# Altium footprint library TRXSOFL6P50_160X160X55L20X20N.PcbLib: 1 footprints
Each footprint in its own frame and in the unit in brackets; x right, y up, seen from the top. Pads: shape width x height; smd on the part's side, far side on the other; paste and mask are expansions set on the pad; w line width, h text height; cw(c..) or ccw(c..) is an arc to the next point about the centre after c.
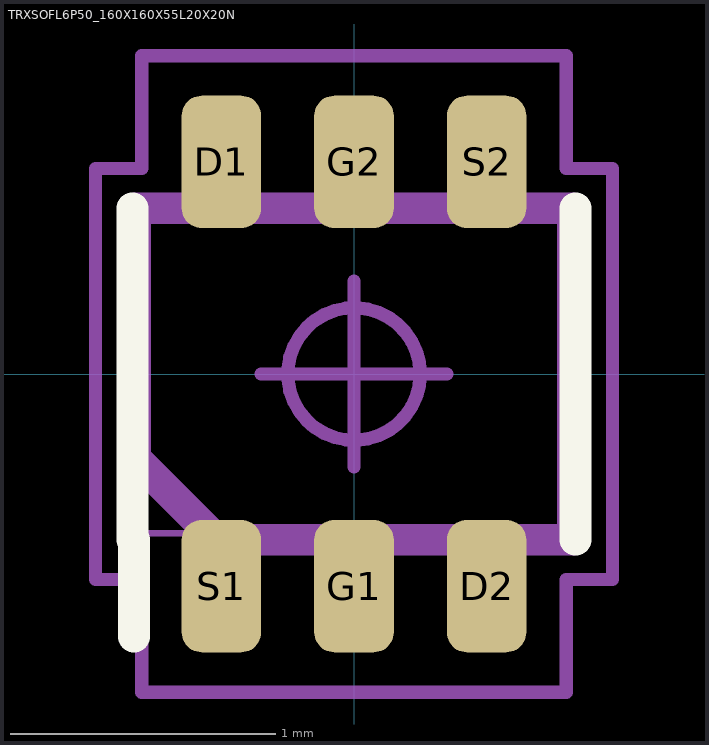
[diagram p0: the footprint, top view; thin cyan lines are the x and y axes]

## TRXSOFL6P50_160X160X55L20X20N [mm] "Small Outline Flat Lead (SOFL), 0.50 mm pitch; 6 pin, 1.60 mm L X 1.20 mm W X 0.60 mm H Body"
height 0.6
pads (6):
  rrect50% 0.3x0.5 smd: D1(-0.5,0.8) D2(0.5,-0.8) G1(0,-0.8) G2(0,0.8) S1(-0.5,-0.8) S2(0.5,0.8)
Top Overlay:
  lines w0.12: -0.835,-0.625 -0.835,0.625 ; -0.83,-0.99 -0.83,-0.625 ; 0.835,-0.625 0.835,0.625
Mechanical 3:
  lines w0.12: -0.825,-0.318 -0.825,0.625 0.825,0.625 0.825,-0.625 -0.518,-0.625 -0.825,-0.318
Mechanical 5:
  lines w0.025: -0.8,-0.6 0.8,-0.6 0.8,0.6 -0.8,0.6 -0.8,-0.6 ; -0.6,-0.8 -0.6,-0.6 -0.4,-0.6 -0.4,-0.8 -0.6,-0.8 ; -0.6,0.6 -0.6,0.8 -0.4,0.8 -0.4,0.6 -0.6,0.6 ; -0.1,-0.8 -0.1,-0.6 0.1,-0.6 0.1,-0.8 -0.1,-0.8 ; -0.1,0.6 -0.1,0.8 0.1,0.8 0.1,0.6 -0.1,0.6 ; 0.4,-0.8 0.4,-0.6 0.6,-0.6 0.6,-0.8 0.4,-0.8 ; 0.4,0.6 0.4,0.8 0.6,0.8 0.6,0.6 0.4,0.6
Mechanical 7:
  circle w0.05: c0,0 r0.25
  lines w0.05: -0.35,0 0.35,0 ; 0,-0.35 0,0.35 ; -0.975,-0.775 -0.8,-0.775 -0.8,-1.2 0.8,-1.2 0.8,-0.775 0.975,-0.775 0.975,0.775 0.8,0.775 0.8,1.2 -0.8,1.2 -0.8,0.775 -0.975,0.775 -0.975,-0.775
Mechanical 9:
  text "'.Designator'" at -5.817,-0.271 h1.02
3D body "TRXSOFL6P50_160X160X55L20X20.STEP": height 0.6, standoff 0, extent -0.8,-0.8 0.8,0.8
3D body: height 0.6, standoff 0, extent -0.975,-1.2 0.975,1.2